# Altium schematic symbol library AUVic_Schematic_Library_Miscellaneous.SchLib: 5 symbols
Pins are listed as number, name and electrical type; pins without a type are passive.

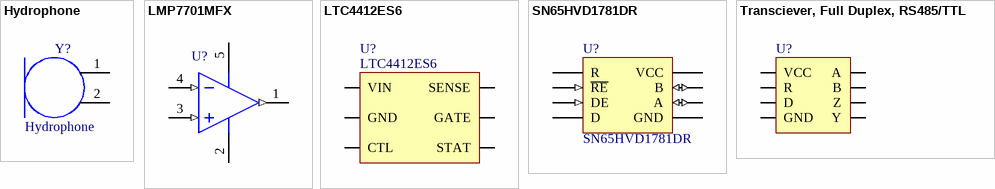
[diagram p0: symbols Hydrophone to Transciever, Full Duplex, RS485/TTL]

## Hydrophone
designator Y?
Connector for Hydrophone; Creator: Jordan Day; Date Created: 09/29/2016
pins: 1 Sig "Signal Out", 2 Gnd "Ground"

## LMP7701MFX
designator U?
Precision, CMOS Input, RRIO, Wide Supply Range Amplifier, 5-pin SOT-23; PartNumber: LMP7701MFX; Manufacturer: National Semiconductor; PackageTopMarking: AC2A*XTT; PowerWise: N; CompType: Amplifiers; High-Reliability: Y; DatasheetVersion: Jun-2008; PackageVersion: revD, Aug-2008; PackageReference: MF05A; PackageDescription: Molded SOT-23, .115 x .063 x .040 in Body, 5 Lead, .0375 in Pitch; RoHS: N; PinCount: 5; ComponentLink1Description: Manufacturer URL; ComponentLink1URL: http://www.national.com/; ComponentLink2Description: LMP7701 Datasheet; ComponentLink2URL: http://www.national.com/ds/LM/LMP7701.pdf; ComponentLink3Description: LMP7701 Web Page; ComponentLink3URL: http://www.national.com/pf/LM/LMP7701.html; ComponentLink4Description: MF05A Package Page; ComponentLink4URL: http://www.national.com/packaging/folders/mf05a.html; Supplier 1: Digi-Key; Supplier Part Number 1: LMP7701MF/NOPBCT-ND
footprint MF05A_N (SOT23, 5-Leads, Body 2.9x1.6mm, Pitch 0.95mm, Lead Span 2.8mm, IPC Medium Density)
footprint MF05A_L (SOT23, 5-Leads, Body 2.9x1.6mm, Pitch 0.95mm, Lead Span 2.8mm, IPC High Density)
footprint MF05A_M (SOT23, 5-Leads, Body 2.9x1.6mm, Pitch 0.95mm, Lead Span 2.8mm, IPC Low Density)
pins: 1 OUT (out), 2 V- (power), 3 IN+ (in), 4 IN- (in), 5 V+ (power)

## LTC4412ES6
designator U?
OR Controller Source Selector Switch P-Channel 2:1 TSOT-23-6. Switches between power supplies.; Supplier 1: Digi-Key; Supplier Part Number 1: LTC4412ES6#TRPBFCT-ND
footprint TSOT-23-6
pins: 1 VIN, 2 GND, 3 CTL, 4 STAT, 5 GATE, 6 SENSE

## SN65HVD1781DR
designator U?  Manufacturer Part Number: SN65HVD1781DR  (hidden comment: *)
IC TXRX RS485 FAULT-PROT 8-SOIC; Manufacturer: Texas Instruments; Number of Drivers/Receivers: 1/1; Duplex: Half; Receiver Hysteresis: 50mV; Data Rate: 1Mbps; Voltage - Supply: 3.15 V ~ 5.5 V; Supplier 1: Digi-Key; RoHS: RoHS Compliant; Category: Integrated Circuits (ICs); Stock 1: 19665; Pricing 1: 1=4.8, 10=4.296, 25=3.8628, 100=3.5132, 250=3.18016, 500=2.84716, 750=2.58075, 1000=2.08125 (USD); Packaging: Cut Tape (CT); Type: Transceiver; Protocol: RS485; Operating Temperature: -40°C ~ 125°C; Mounting Type: Surface Mount; Package / Case: 8-SOIC (0.154", 3.90mm Width); Supplier Device Package: 8-SOIC; ComponentLink1URL: http://www.ti.com/lit/ds/symlink/sn65hvd1781.pdf; ComponentLink1Description: http://www.ti.com/lit/ds/symlink/sn65hvd1781.pdf; Supplier Part Number 1: 296-23118-1-ND
footprint SOIC127P490X175-8M (SOIC, 8-Leads, Body 4.90x3.90mm, Pitch 1.27mm, IPC Low Density)
pins: 1 R, 2 ~{RE} (in), 3 DE (in), 4 D, 5 GND (power), 6 A (io), 7 B (io), 8 VCC (power)

## Transciever, Full Duplex, RS485/TTL
designator U?  (value not drawn)
Transciever, Full Duplex, RS485/TTL; Publisher: AUVic, Ashwin Sira; Date Published: 2014-06-03; Last Updated: *; Reviewed By: *; Supplier 1: Digi-Key; Supplier Part Number 1: 296-14956-1-ND
footprint SOIC127P780X200-8N (SOIC, 8-Leads, Body 6.20x5.30mm, Pitch 1.27mm, IPC Medium Density)
pins: 1 VCC, 2 R, 3 D, 4 GND, 5 Y, 6 Z, 7 B, 8 A